# Altium footprint library PcbLib1.PcbLib: 39 footprints (part 3 of 3)
Each footprint in its own frame and in the unit in brackets; x right, y up, seen from the top. Pads: shape width x height; smd on the part's side, far side on the other; paste and mask are expansions set on the pad; w line width, h text height; cw(c..) or ccw(c..) is an arc to the next point about the centre after c.
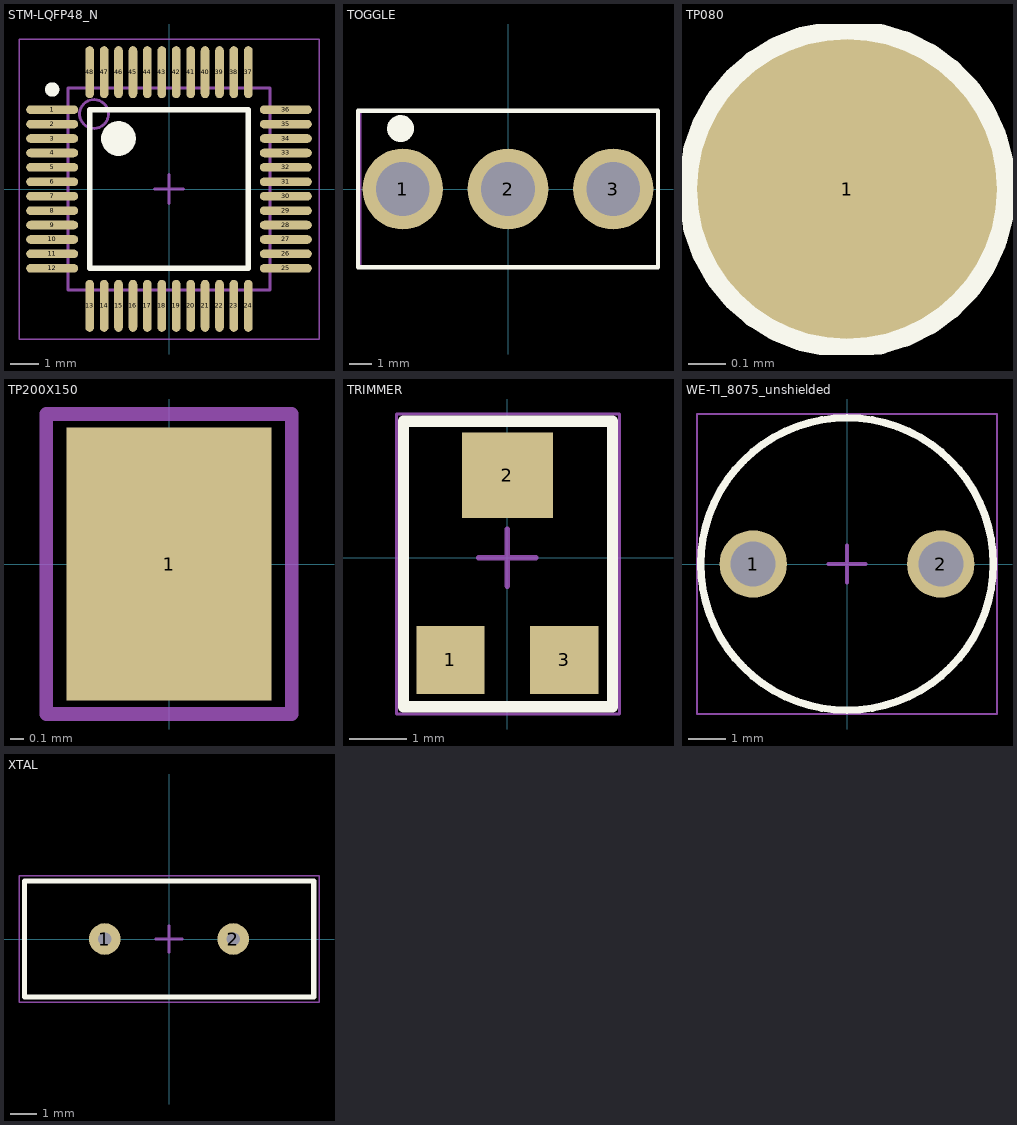
[diagram p2: the footprints below, top view; thin cyan lines are the x and y axes]

## STM-LQFP48_N [mm] "QFP, 48-Leads, Body 7x7mm, Pitch 0.5mm, IPC Medium Density"
height 1.6
pads (48):
  oval 1.8x0.3 smd: 1(-4.05,2.75) 2(-4.05,2.25) 3(-4.05,1.75) 4(-4.05,1.25) 5(-4.05,0.75) 6(-4.05,0.25) 7(-4.05,-0.25) 8(-4.05,-0.75) 9(-4.05,-1.25) 10(-4.05,-1.75) 11(-4.05,-2.25) 12(-4.05,-2.75) 25(4.05,-2.75) 26(4.05,-2.25) 27(4.05,-1.75) 28(4.05,-1.25) 29(4.05,-0.75) 30(4.05,-0.25) 31(4.05,0.25) 32(4.05,0.75) 33(4.05,1.25) 34(4.05,1.75) 35(4.05,2.25) 36(4.05,2.75)
  oval 0.3x1.8 smd: 13(-2.75,-4.05) 14(-2.25,-4.05) 15(-1.75,-4.05) 16(-1.25,-4.05) 17(-0.75,-4.05) 18(-0.25,-4.05) 19(0.25,-4.05) 20(0.75,-4.05) 21(1.25,-4.05) 22(1.75,-4.05) 23(2.25,-4.05) 24(2.75,-4.05) 37(2.75,4.05) 38(2.25,4.05) 39(1.75,4.05) 40(1.25,4.05) 41(0.75,4.05) 42(0.25,4.05) 43(-0.25,4.05) 44(-0.75,4.05) 45(-1.25,4.05) 46(-1.75,4.05) 47(-2.25,4.05) 48(-2.75,4.05)
Top Overlay:
  circle w0.6: c-1.75,1.75 r0.3
  circle w0.25: c-4.05,3.45 r0.125
  lines w0.2: -2.75,-2.75 2.75,-2.75 2.75,2.75 -2.75,2.75 -2.75,-2.75
Mechanical 13:
  circle w0.1: c-2.6,2.6 r0.5
  lines w0.1: -3.5,-3.5 3.5,-3.5 3.5,3.5 -3.5,3.5 -3.5,-3.5
Mechanical 15:
  lines w0.05: -5.2,-5.2 5.2,-5.2 5.2,5.2 -5.2,5.2 -5.2,-5.2
  lines w0.1: -0.5,0 0.5,0 ; 0,-0.5 0,0.5
3D body: height 1.6, standoff 0.05, extent -3.5,-3.5 3.5,3.5

## TOGGLE [mm]
pads (3):
  round 3.6 hole 2.4: 1(-4.7,0) 2(0,0) 3(4.7,0)
Top Overlay:
  circle w0.6: c-4.8,2.7 r0.3
  lines w0.2: -6.7,-3.5 -6.7,3.5 6.7,3.5 6.7,-3.5 -6.7,-3.5
Mechanical 11:
  text ".Designator" at -4.86,3.865 h1
Mechanical 14:
  circle w0.1: c-4.8,2.7 r0.5
  lines w0.1: -6.6,-3.5 6.7,-3.5 6.7,3.5 -6.6,3.5 -6.6,-3.5
Mechanical 15:
  lines w0.05: -6.7,-3.5 -6.7,3.5 6.7,3.5 6.7,-3.5 -6.7,-3.5
  lines w0.1: -0.5,0 0.5,0 ; 0,-0.5 0,0.5
3D body "User Library-7101SYZBE CK switch.STEP": height 28.46, standoff -3.93, extent -6.359,-3.43 6.37,3.43

## TP080 [mm] "Test point 0.8mm"
pads (1):
  round 0.8 smd paste-0.5: 1(0,0)
Top Overlay:
  circle w0.1: c0,0 r0.4
Mechanical 11:
  text ".Designator" at -1.46,0.64 h0.76
Mechanical 14:
  circle w0.05: c0,0 r0.4
Mechanical 15:
  circle w0.05: c0,0 r0.4
  lines w0.05: -0.25,0 0.25,0 ; 0,-0.25 0,0.25

## TP200X150 [mm] "SMD testpoint 2X1,5mm"
pads (1):
  rect 1.5x2 smd paste-1: 1(0,0)
Mechanical 11:
  text ".Designator" at -0.86,-0.16 h0.76
Mechanical 14:
  lines w0.1: -0.9,-1.1 0.9,-1.1 0.9,1.1 -0.9,1.1 -0.9,-1.1
Mechanical 15:
  lines w0.05: -0.25,0 0.25,0 ; 0,-0.25 0,0.25 ; -0.9,-1.1 -0.9,1.1 0.9,1.1 0.9,-1.1 -0.9,-1.1

## TRIMMER [mm]
pads (3):
  rect 1.2x1.2 smd: 1(-1,-1.8) 3(1,-1.8)
  rect 1.6x1.5 smd: 2(0,1.45)
Top Overlay:
  lines w0.2: -1.825,-2.625 -1.825,2.4 1.85,2.4 1.85,-2.625 -1.825,-2.625
Mechanical 11:
  text ".Designator" at -4.8,3.025 h1
Mechanical 14:
  lines w0.1: -1.825,-2.625 -1.825,2.4 1.85,2.4 1.85,-2.625 -1.825,-2.625
Mechanical 15:
  lines w0.05: -1.95,-2.75 -1.95,2.525 1.975,2.525 1.975,-2.75 -1.95,-2.75
  lines w0.1: -0.5,0 0.5,0 ; 0,-0.5 0,0.5
3D body "User Library-PVZ2A.STEP": height 0.8, standoff 0, extent -1.059,-1.629 1.041,1.071

## WE-TI_8075_unshielded [mm] "THT Inductor, 2-Leads, Body 7.8x7.5"
height 7.5
pads (2):
  round 1.8 hole 1.2: 1(-2.5,0) 2(2.5,0)
Top Overlay:
  circle w0.2: c0,0 r3.9
Mechanical 11:
  text ".Designator" at -3.76,4.265 h1
Mechanical 15:
  lines w0.05: -4,-4 -4,4 4,4 4,-4 -4,-4
  lines w0.1: -0.5,0 0.5,0 ; 0,-0.5 0,0.5
3D body "WE-TI_8075_744730xxx.stp": height 7.6, standoff -4.9, extent -3.889,-3.896 3.888,3.896

## XTAL [mm]
pads (2):
  round 1.2 hole 0.5: 1(-2.44,0) 2(2.44,0)
Top Overlay:
  lines w0.2: -5.49,-2.2 -5.49,2.2 5.5,2.2 5.5,-2.2 -5.49,-2.2
Mechanical 11:
  text ".Designator" at -4.8,3.8 h1
Mechanical 14:
  lines w0.1: -5.5,-2.2 -5.5,2.2 5.5,2.2 5.5,-2.2 -5.5,-2.2
Mechanical 15:
  lines w0.05: -5.7,-2.4 -5.7,2.4 5.7,2.4 5.7,-2.4 -5.7,-2.4
  lines w0.1: -0.5,0 0.5,0 ; 0,-0.5 0,0.5
3D body "User Library-HC49S-1.STEP": height 3.6, standoff -3, extent -5.49,-2.245 5.49,2.246